# EAGLE library part PNP-DUAL (library Q-PNP)
Dual BJT Example Diodes DMMT5551 Intrinsically Matched NPN Pair 2% 160Vce, 80 hFE min, 100 MHz fT
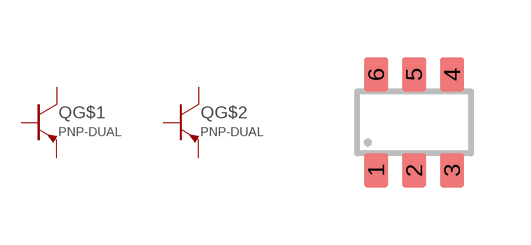
[diagram p0: symbol with the pads of SOT26; footprint SOT26]

Designator prefix Q; gates G$1=PNP G$2=PNP

## PNP-DUAL  [SOT26]
1  G$1:C  pas
2  G$1:B  pas
3  G$2:B  pas
4  G$2:C  pas
5  G$2:E  pas
6  G$1:E  pas

## Footprint SOT26 (pad centres in mm)
SOT26 http://www.diodes.com/datasheets/ap02001.pdf
smd 0.6 x 0.85: 1 -0.95,-1.2; 2 0,-1.2; 3 0.95,-1.2; 4 0.95,1.2; 5 0,1.2; 6 -0.95,1.2